# EAGLE library part MTD6508_MOTOR_DRIVER (library thanics_robotics)
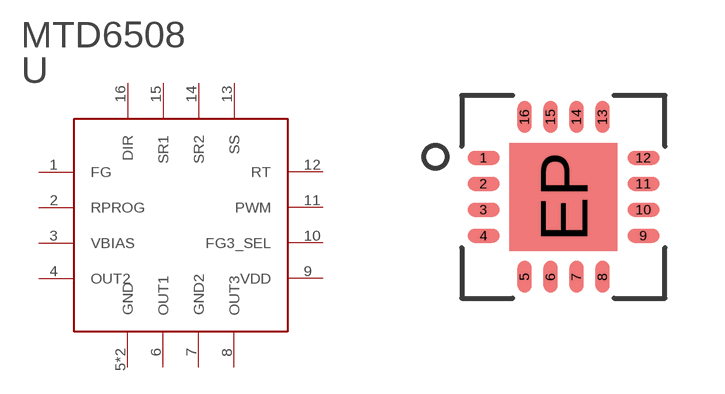
[diagram p8: symbol with the pads of 16-UQFN; footprint 16-UQFN]

Designator prefix -

## MTD6508_MOTOR_DRIVER  [16-UQFN]
1  FG
2  RPROG
3  VBIAS
4  OUT2
5  GND
6  OUT1
7  GND2
8  OUT3
9  VDD
10  FG3_SEL
11  PWM
12  RT
13  SS
14  SR2
15  SR1
16  DIR
EP  GND

## Footprint 16-UQFN (pad centres in mm)
smd 0.8 x 0.35: 1 -2,0.975; 2 -2,0.325; 3 -2,-0.325; 4 -2,-0.975; 9 2,-0.975; 10 2,-0.325; 11 2,0.325; 12 2,0.975
smd 0.35 x 0.8: 5 -0.975,-2; 6 -0.325,-2; 7 0.325,-2; 8 0.975,-2; 13 0.975,2; 14 0.325,2; 15 -0.325,2; 16 -0.975,2
smd 2.7 x 2.7: EP 0,0